# Altium footprint library PcbLib1.PcbLib: 6 footprints
Each footprint in its own frame and in the unit in brackets; x right, y up, seen from the top. Pads: shape width x height; smd on the part's side, far side on the other; paste and mask are expansions set on the pad; w line width, h text height; cw(c..) or ccw(c..) is an arc to the next point about the centre after c.
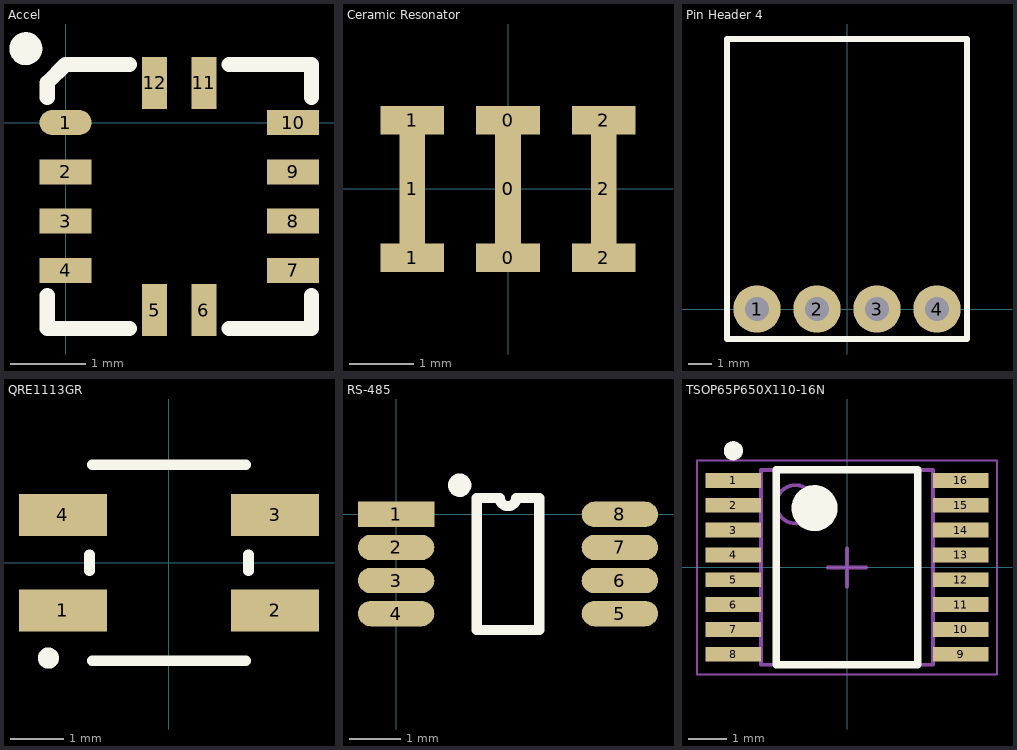
[diagram p0: the footprints below, top view; thin cyan lines are the x and y axes]

## Accel [mm]
pads (12):
  oval 0.686x0.33 smd: 1(0,0)
  rect 0.686x0.33 smd: 2(0,-0.65) 3(0,-1.3) 4(0,-1.95) 7(3,-1.95) 8(3,-1.3) 9(3,-0.65) 10(3,0)
  rect 0.33x0.686 smd: 5(1.175,-2.475) 6(1.825,-2.475) 11(1.825,0.525) 12(1.175,0.525)
Top Overlay:
  circle w0.254: c-0.525,0.975 r0.09
  lines w0.2: -0.243,-2.28 -0.243,-2.718 0.845,-2.718 ; -0.243,0.33 -0.243,0.525 0,0.768 0.845,0.768 ; 2.155,-2.718 3.243,-2.718 3.243,-2.28 ; 2.155,0.768 3.243,0.768 3.243,0.33

## Ceramic Resonator [mm]
pads (9):
  rect 0.4x1.7 smd: 0(0,0) 1(-1.5,0) 2(1.5,0)
  rect 1x0.45 smd: 0(0,1.075) 0(0,-1.075) 1(-1.5,-1.075) 1(-1.5,1.075) 2(1.5,1.075) 2(1.5,-1.075)

## Pin Header 4 [mm] "4-pin pin header"
pads (4):
  round 2 hole 1.02: 1(-3.81,0) 2(-1.27,0) 3(1.27,0) 4(3.81,0)
Top Overlay:
  lines w0.254: -5.08,-1.27 -5.08,11.43 5.08,11.43 5.08,-1.27 -5.08,-1.27

## QRE1113GR [mm] "Reflective Photo Interrupter"
pads (4):
  rect 1.66x0.79 smd: 1(-2,-0.9) 2(2,-0.9) 3(2,0.9) 4(-2,0.9)
Top Overlay:
  circle w0.2: c-2.275,-1.8 r0.1
  lines w0.2: -1.5,-0.15 -1.5,0.15 ; -1.45,-1.85 1.45,-1.85 ; -1.45,1.85 1.45,1.85 ; 1.5,-0.15 1.5,0.15

## RS-485 [mm]
pads (8):
  rect 1.5x0.5 smd: 1(0,0)
  oval 1.5x0.5 smd: 2(0,-0.65) 3(0,-1.3) 4(0,-1.95) 5(4.4,-1.95) 6(4.4,-1.3) 7(4.4,-0.65) 8(4.4,0)
Top Overlay:
  circle w0.254: c1.25,0.575 r0.103
  lines w0.2: 1.585,-2.275 2.815,-2.275 2.815,0.325 2.362,0.325 cw(c2.2,0.325) 2.037,0.325 1.585,0.325 1.585,-2.275

## TSOP65P650X110-16N [mm] "TSOP, 16-Leads, Body 5,00x4,40mm, Pitch 0,65mm, IPC Medium Density"
height 1.1
pads (16):
  rect 1.45x0.39 smd: 1(-2.975,2.275) 2(-2.975,1.625) 3(-2.975,0.975) 4(-2.975,0.325) 5(-2.975,-0.325) 6(-2.975,-0.975) 7(-2.975,-1.625) 8(-2.975,-2.275) 9(2.975,-2.275) 10(2.975,-1.625) 11(2.975,-0.975) 12(2.975,-0.325) 13(2.975,0.325) 14(2.975,0.975) 15(2.975,1.625) 16(2.975,2.275)
Top Overlay:
  circle w0.25: c-2.975,3.05 r0.125
  circle w0.6: c-0.85,1.55 r0.3
  lines w0.2: -1.85,-2.55 -1.85,2.55 1.85,2.55 1.85,-2.55 -1.85,-2.55
Mechanical 13:
  circle w0.1: c-1.35,1.65 r0.5
  lines w0.1: -2.25,-2.55 -2.25,2.55 2.25,2.55 2.25,-2.55 -2.25,-2.55
Mechanical 15:
  lines w0.05: -3.925,-2.8 -3.925,2.8 3.925,2.8 3.925,-2.8 -3.925,-2.8
  lines w0.1: -0.5,0 0.5,0 ; 0,-0.5 0,0.5
3D body: height 1.1, standoff 0.1, extent -2.25,-2.55 2.25,2.55